# Altium schematic symbol library IMTP_TI.SchLib: 6 symbols
Pins are listed as number, name and electrical type; pins without a type are passive.

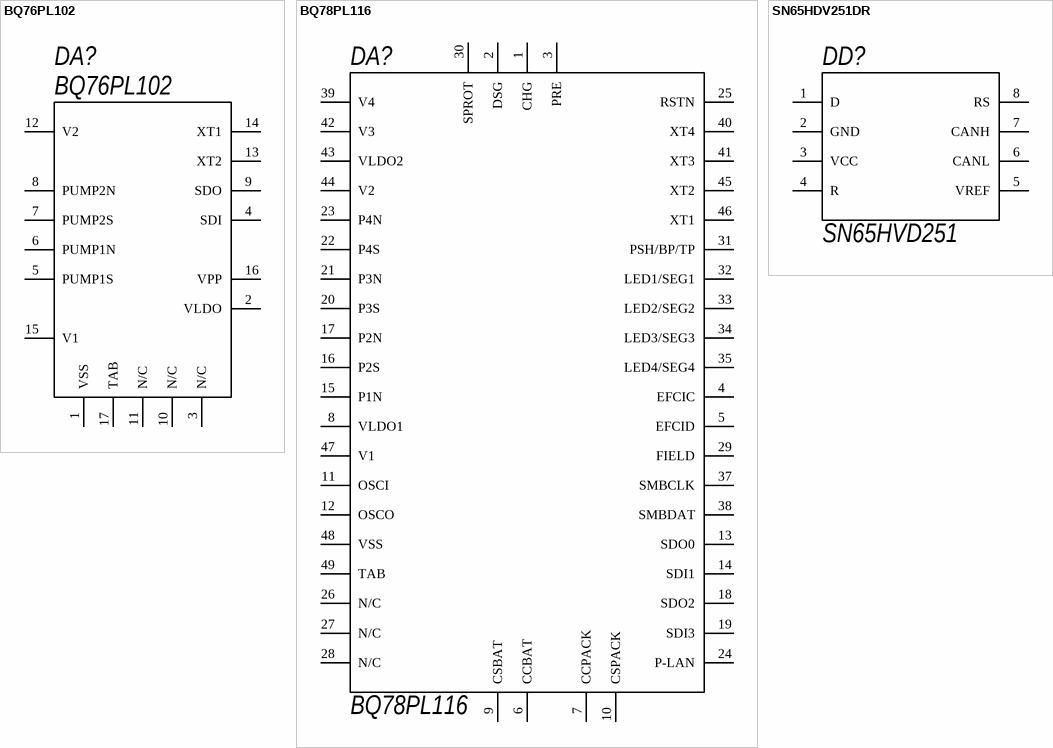
[diagram p0: symbols BQ76PL102 to SN65HDV251DR]

## BQ76PL102
designator DA?
LastRevisionDate: 15.02.2011; Name: BQ76PL102; OutComment: BQ76PL102; PackageDescription: PQFP-18; Publisher: IMTP FEB RAS
footprint QFN50P300X300-16V6N (QFN, 16-Leads, Body 3x3mm, Pitch 0.5mm, IPC Medium Density)
pins: 1 VSS, 2 VLDO, 3 N/C, 4 SDI, 5 PUMP1S, 6 PUMP1N, 7 PUMP2S, 8 PUMP2N, 9 SDO, 10 N/C, 11 N/C, 12 V2, 13 XT2, 14 XT1, 15 V1, 16 VPP, 17 TAB

## BQ78PL116
designator DA?
LastRevisionDate: 15.02.2011; Name: BQ78PL116; OutComment: BQ78PL116; PackageDescription: PQFP-48; Publisher: IMTP FEB RAS
footprint QFN50P700X700-48V6N (QFN, 48-Leads, Body 7x7mm, Pitch 0.5mm, IPC Medium Density)
pins: 1 CHG, 2 DSG, 3 PRE, 4 EFCIC, 5 EFCID, 6 CCBAT, 7 CCPACK, 8 VLDO1, 9 CSBAT, 10 CSPACK, 11 OSCI, 12 OSCO, 13 SDO0, 14 SDI1, 15 P1N, 16 P2S, 17 P2N, 18 SDO2, 19 SDI3, 20 P3S, 21 P3N, 22 P4S, 23 P4N, 24 P-LAN, 25 RSTN, 26 N/C, 27 N/C, 28 N/C, 29 FIELD, 30 SPROT, 31 PSH/BP/TP, 32 LED1/SEG1, 33 LED2/SEG2, 34 LED3/SEG3, 35 LED4/SEG4, 37 SMBCLK, 38 SMBDAT, 39 V4, 40 XT4, 41 XT3, 42 V3, 43 VLDO2, 44 V2, 45 XT2, 46 XT1, 47 V1, 48 VSS, 49 TAB

## SN65HDV251DR
designator DD?, comment SN65HVD251
OutComment: SN65HVD251DR; LastRevisionDate: 25.03.2010; Name: SN65HVD251; PackageDescription: SOIC 8; Publisher: IMTP FEB RAS
footprint SOJ-8
pins: 1 D, 2 GND, 3 VCC, 4 R, 5 VREF, 6 CANL, 7 CANH, 8 RS

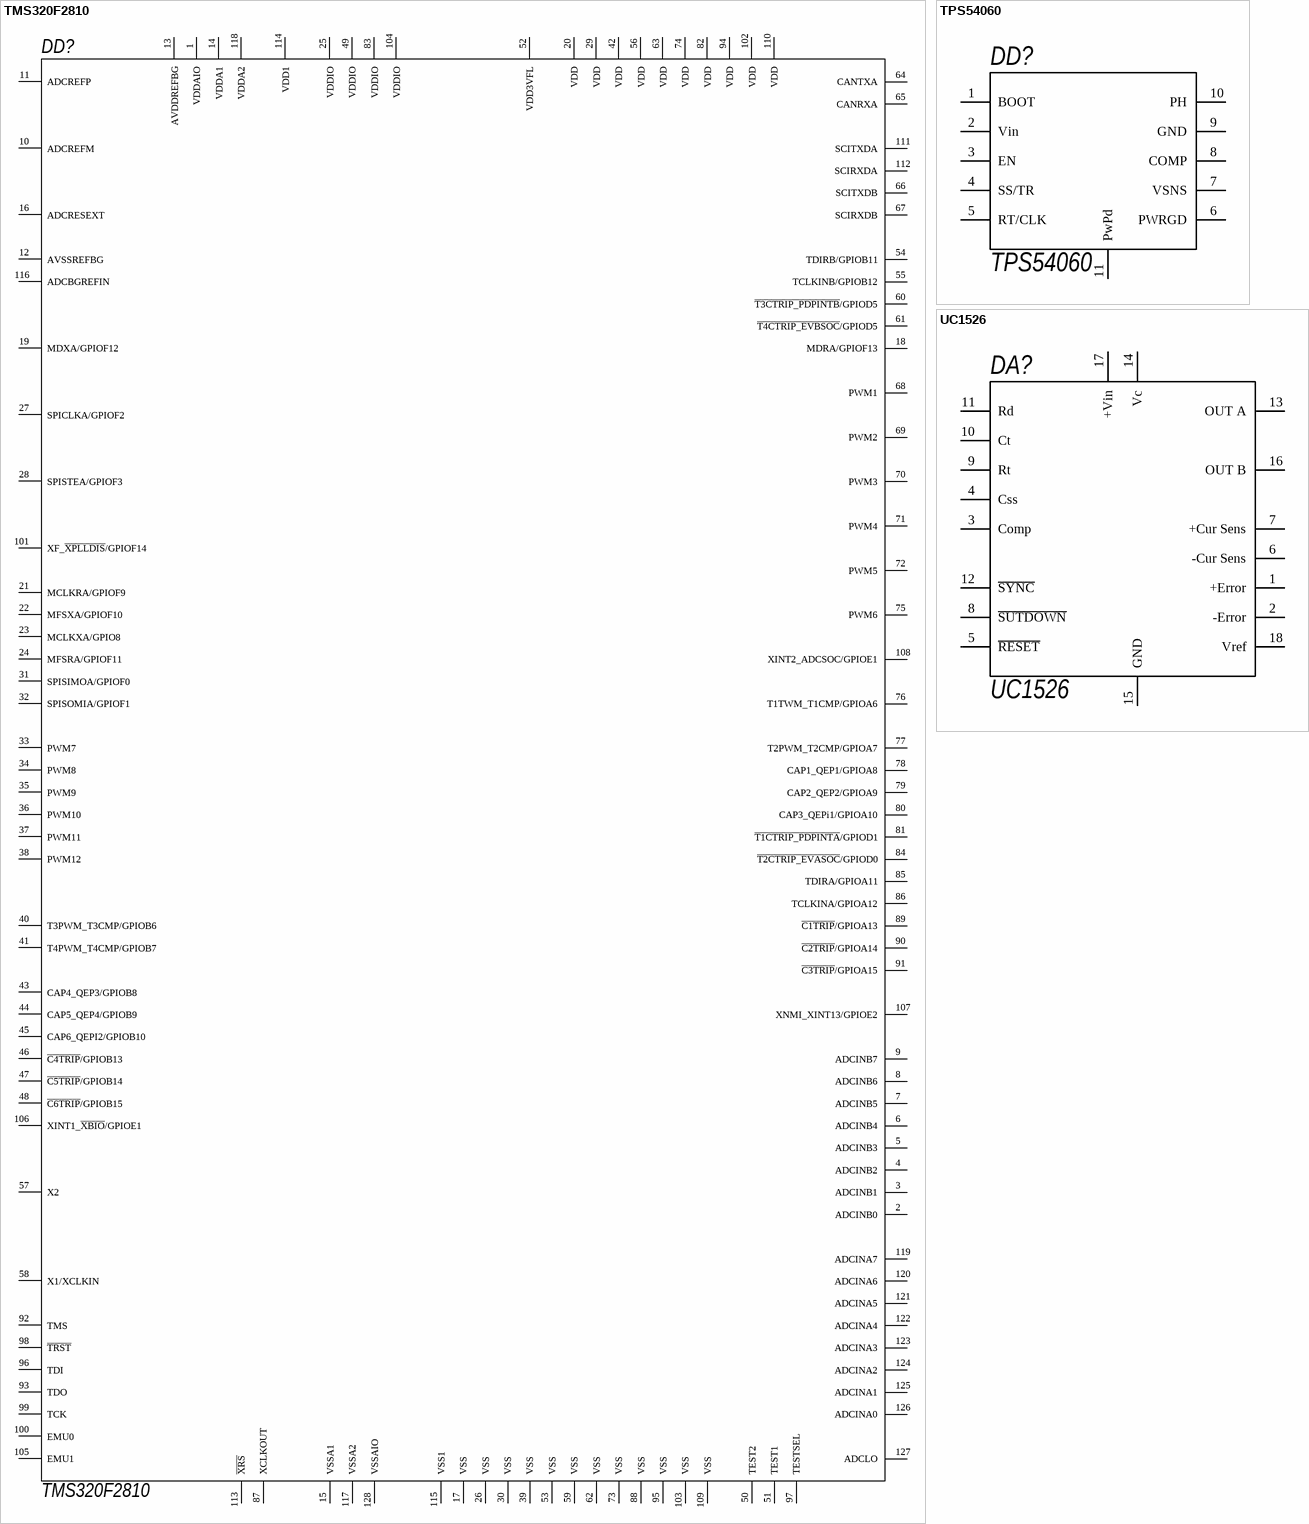
[diagram p1: symbols TMS320F2810 to UC1526]

## TMS320F2810
designator DD?
LastRevisionDate: 25.03.2010; Name: TMS320F2810; OutComment: TMS320F2810; Publisher: IMTP FEB RAS
pins: 1 VDDAIO, 2 ADCINB0, 3 ADCINB1, 4 ADCINB2, 5 ADCINB3, 6 ADCINB4, 7 ADCINB5, 8 ADCINB6, 9 ADCINB7, 10 ADCREFM, 11 ADCREFP, 12 AVSSREFBG, 13 AVDDREFBG, 14 VDDA1, 15 VSSA1, 16 ADCRESEXT, 17 VSS, 18 MDRA/GPIOF13, 19 MDXA/GPIOF12, 20 VDD, 21 MCLKRA/GPIOF9, 22 MFSXA/GPIOF10, 23 MCLKXA/GPIO8, 24 MFSRA/GPIOF11, 25 VDDIO, 26 VSS, 27 SPICLKA/GPIOF2, 28 SPISTEA/GPIOF3, 29 VDD, 30 VSS, 31 SPISIMOA/GPIOF0, 32 SPISOMIA/GPIOF1, 33 PWM7, 34 PWM8, 35 PWM9, 36 PWM10, 37 PWM11, 38 PWM12, 39 VSS, 40 T3PWM_T3CMP/GPIOB6, 41 T4PWM_T4CMP/GPIOB7, 42 VDD, 43 CAP4_QEP3/GPIOB8, 44 CAP5_QEP4/GPIOB9, 45 CAP6_QEPI2/GPIOB10, 46 ~{C4TRIP}/GPIOB13, 47 ~{C5TRIP}/GPIOB14, 48 ~{C6TRIP}/GPIOB15, 49 VDDIO, 50 TEST2, 51 TEST1, 52 VDD3VFL, 53 VSS, 54 TDIRB/GPIOB11, 55 TCLKINB/GPIOB12, 56 VDD, 57 X2, 58 X1/XCLKIN, 59 VSS, 60 ~{T3CTRIP_PDPINTB}/GPIOD5, 61 ~{T4CTRIP_EVBSOC}/GPIOD5, 62 VSS, 63 VDD, 64 CANTXA, 65 CANRXA, 66 SCITXDB, 67 SCIRXDB, 68 PWM1, 69 PWM2, 70 PWM3, 71 PWM4, 72 PWM5, 73 VSS, 74 VDD, 75 PWM6, 76 T1TWM_T1CMP/GPIOA6, 77 T2PWM_T2CMP/GPIOA7, 78 CAP1_QEP1/GPIOA8, 79 CAP2_QEP2/GPIOA9, 80 CAP3_QEPi1/GPIOA10, 81 ~{T1CTRIP_PDPINTA}/GPIOD1, 82 VDD, 83 VDDIO, 84 ~{T2CTRIP_EVASOC}/GPIOD0, 85 TDIRA/GPIOA11, 86 TCLKINA/GPIOA12, 87 XCLKOUT, 88 VSS, 89 ~{C1TRIP}/GPIOA13, 90 ~{C2TRIP}/GPIOA14, 91 ~{C3TRIP}/GPIOA15, 92 TMS, 93 TDO, 94 VDD, 95 VSS, 96 TDI, 97 TESTSEL, 98 ~{TRST}, 99 TCK, 100 EMU0, 101 XF_~{XPLLDIS}/GPIOF14, 102 VDD, 103 VSS, 104 VDDIO, 105 EMU1, 106 XINT1_~{XBIO}/GPIOE1, 107 XNMI_XINT13/GPIOE2, 108 XINT2_ADCSOC/GPIOE1, 109 VSS, 110 VDD, 111 SCITXDA, 112 SCIRXDA, 113 ~{XRS}, 114 VDD1, 115 VSS1, 116 ADCBGREFIN, 117 VSSA2, 118 VDDA2, 119 ADCINA7, 120 ADCINA6, 121 ADCINA5, 122 ADCINA4, 123 ADCINA3, 124 ADCINA2, 125 ADCINA1, 126 ADCINA0, 127 ADCLO, 128 VSSAIO

## TPS54060
designator DD?
LastRevisionDate: 25.03.2010; Name: TPS54060; OutComment: TPS54060; PackageDescription: TSSOP; Publisher: IMTP FEB RAS
footprint TSSOP50P490_HS-10L (TSSOP, 10-Leads, Body 3x3mm, Pitch 0.5mm, Exposed Pad, IPC High Density)
pins: 1 BOOT, 2 Vin, 3 EN, 4 SS/TR, 5 RT/CLK, 6 PWRGD, 7 VSNS, 8 COMP, 9 GND, 10 PH, 11 PwPd

## UC1526
designator DA?
LastRevisionDate: 25.03.2010; Name: UC1526; OutComment: UC1526; PackageDescription: SOIC 8; Publisher: IMTP FEB RAS
footprint dip18
pins: 1 +Error, 2 -Error, 3 Comp, 4 Css, 5 ~{RESET}, 6 -Cur Sens, 7 +Cur Sens, 8 ~{SUTDOWN}, 9 Rt, 10 Ct, 11 Rd, 12 ~{SYNC}, 13 OUT A, 14 Vc, 15 GND, 16 OUT B, 17 +Vin, 18 Vref